# Altium integrated library Microchip Microcontroller 8-Bit PIC16.IntLib: 1529 symbols (part 18 of 55)
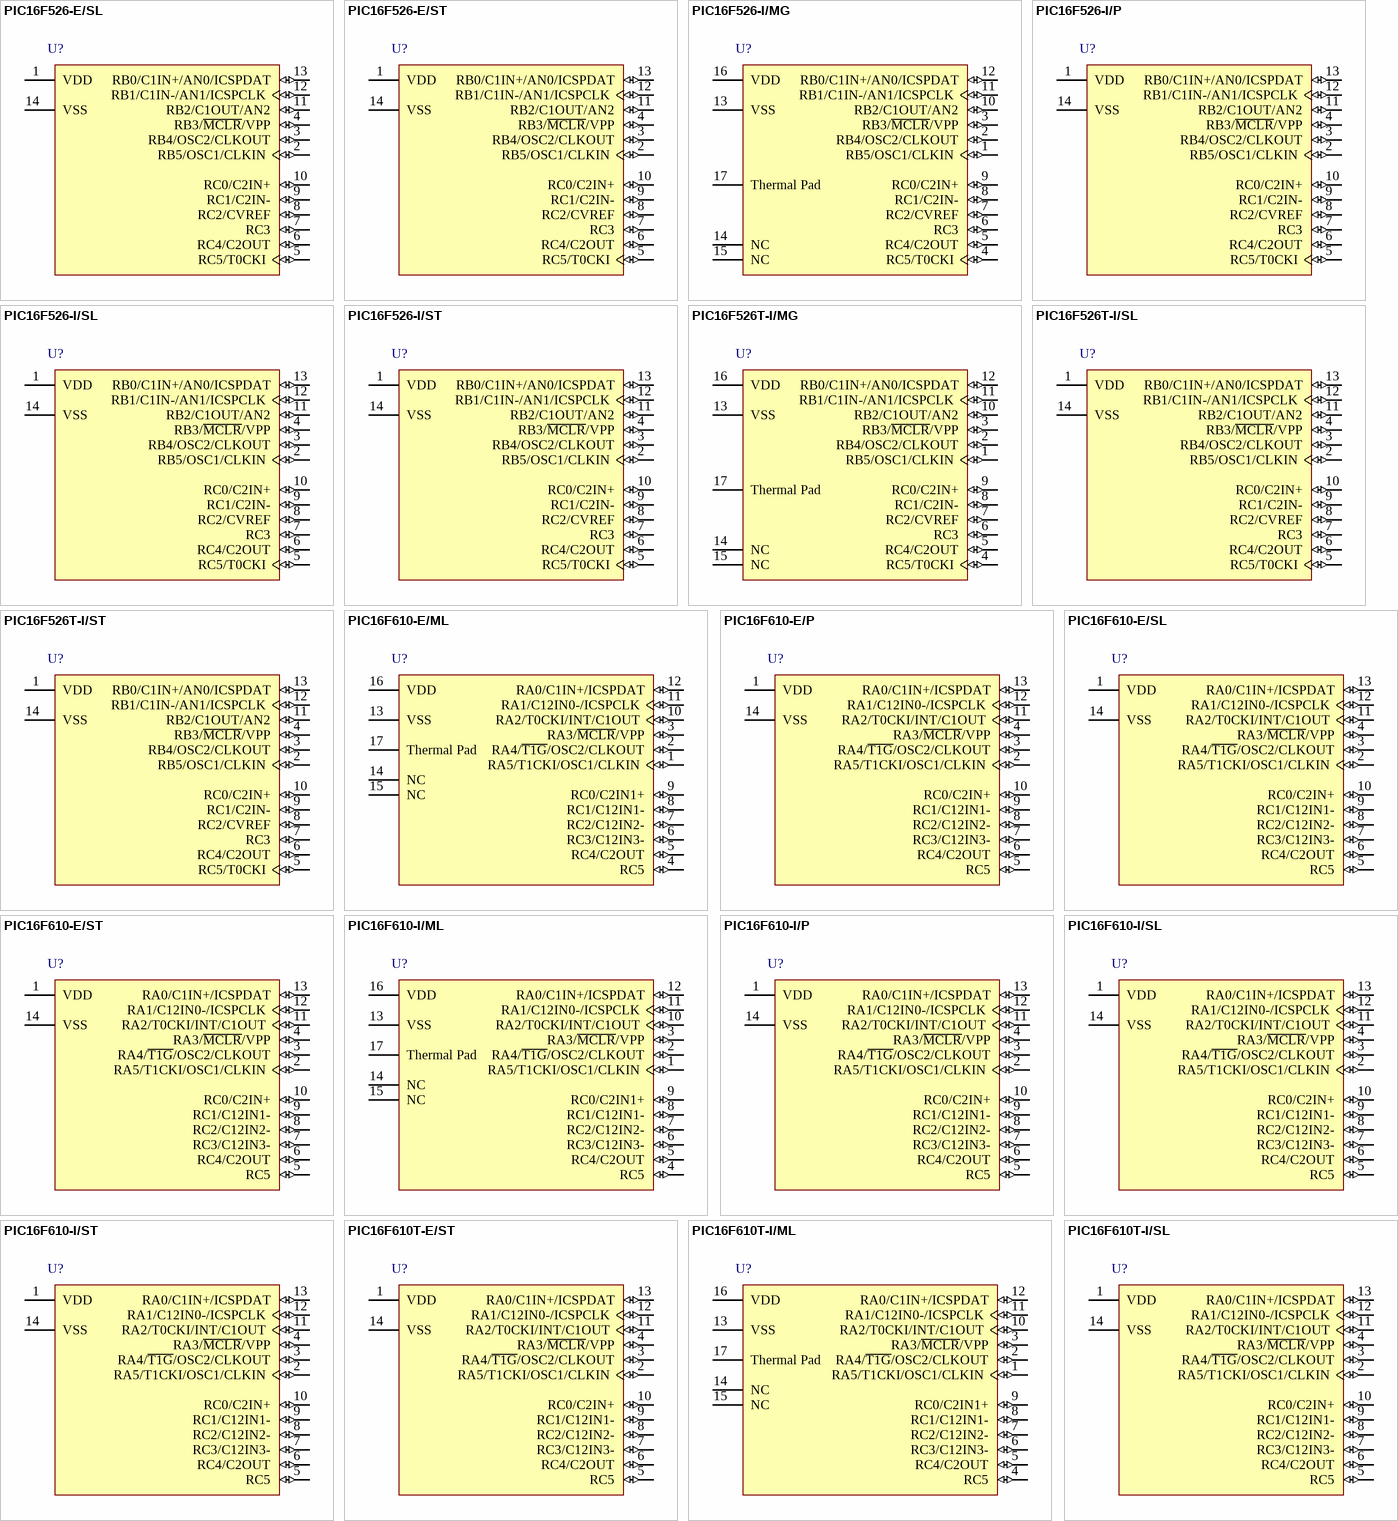
[diagram p135: symbols PIC16F526-E/SL to PIC16F610T-I/SL]

## PIC16F526-I/P
designator U?
8-Bit Flash Microcontroller, 1K (x12-Bit words) Program Memory, 131 Bytes Data Memory, 11 I/O pins, 14-Pin PDIP, Standard VDD Range, Industrial Temperature; Published: 29-Jan-2009; LatestRevisionDate: 02-Dec-2009; LatestRevisionNote: Updated to datasheet version revC, Jul-2009.; DatasheetVersion: revC, Jul-2009; PackageVersion: revBB, Aug-2009; PackageReference: PDIP300-P14; Publisher: Altium Limited; PackageDescription: 14-Lead Plastic Dual In-Line (P) - 300 mil Body [PDIP]; Supplier 1: Digi-Key; Supplier Part Number 1: PIC16F526-I/P-ND; Supplier 2: Farnell; Supplier Part Number 2: 1579579; ComponentLink1Description: Datasheet; ComponentLink1URL: http://ww1.microchip.com/downloads/en/DeviceDoc/41326C.pdf; ComponentLink2Description: Packaging Specification; ComponentLink2URL: http://www.microchip.com/stellent/groups/techpub_sg/documents/packagingspec/en012702.pdf; ComponentLink3Description: Microchip.com Home; ComponentLink3URL: http://www.microchip.com/
footprint PDIP300-P14 (DIP, 14-Leads, Row Spacing 7.62mm, Pitch 2.54mm, Body 19.2x6.6mm)
pins: 1 VDD (power), 2 RB5/OSC1/CLKIN (io), 3 RB4/OSC2/CLKOUT (io), 4 RB3/~{MCLR}/VPP (io), 5 RC5/T0CKI (io), 6 RC4/C2OUT (io), 7 RC3 (io), 8 RC2/CVREF (io), 9 RC1/C2IN- (io), 10 RC0/C2IN+ (io), 11 RB2/C1OUT/AN2 (io), 12 RB1/C1IN-/AN1/ICSPCLK (io), 13 RB0/C1IN+/AN0/ICSPDAT (io), 14 VSS (power)

## PIC16F526-I/SL
designator U?
8-Bit Flash Microcontroller, 1K (x12-Bit words) Program Memory, 131 Bytes Data Memory, 11 I/O pins, 14-Pin SOIC, Standard VDD Range, Industrial Temperature; Published: 29-Jan-2009; LatestRevisionDate: 02-Dec-2009; LatestRevisionNote: Updated to datasheet version revC, Jul-2009.; DatasheetVersion: revC, Jul-2009; PackageVersion: revBB, Aug-2009; PackageReference: SOIC-SL14; Publisher: Altium Limited; PackageDescription: 14-Lead Plastic Small Outline (SL) - Narrow, 3.90mm Body [SOIC]; Supplier 1: Digi-Key; Supplier Part Number 1: PIC16F526-I/SL-ND; Supplier 2: Farnell; Supplier Part Number 2: 1579580; Code_JEDEC: MS-012-AB; Code_IPC: SOIC127P600-14; ComponentLink1Description: Datasheet; ComponentLink1URL: http://ww1.microchip.com/downloads/en/DeviceDoc/41326C.pdf; ComponentLink2Description: Packaging Specification; ComponentLink2URL: http://www.microchip.com/stellent/groups/techpub_sg/documents/packagingspec/en012702.pdf; ComponentLink3Description: Microchip.com Home; ComponentLink3URL: http://www.microchip.com/
footprint SOIC-SL14_N (SOIC, 14-Leads, Body 8.7x3.9mm, Pitch 1.27mm, IPC Medium Density)
footprint SOIC-SL14_L (SOIC, 14-Leads, Body 8.7x3.9mm, Pitch 1.27mm, IPC High Density)
footprint SOIC-SL14_M (SOIC, 14-Leads, Body 8.7x3.9mm, Pitch 1.27mm, IPC Low Density)
pins: 1 VDD (power), 2 RB5/OSC1/CLKIN (io), 3 RB4/OSC2/CLKOUT (io), 4 RB3/~{MCLR}/VPP (io), 5 RC5/T0CKI (io), 6 RC4/C2OUT (io), 7 RC3 (io), 8 RC2/CVREF (io), 9 RC1/C2IN- (io), 10 RC0/C2IN+ (io), 11 RB2/C1OUT/AN2 (io), 12 RB1/C1IN-/AN1/ICSPCLK (io), 13 RB0/C1IN+/AN0/ICSPDAT (io), 14 VSS (power)

## PIC16F526-I/ST
designator U?
8-Bit Flash Microcontroller, 1K (x12-Bit words) Program Memory, 131 Bytes Data Memory, 11 I/O pins, 14-Pin TSSOP, Standard VDD Range, Industrial Temperature; Published: 29-Jan-2009; LatestRevisionDate: 02-Dec-2009; LatestRevisionNote: Updated to datasheet version revC, Jul-2009.; DatasheetVersion: revC, Jul-2009; PackageVersion: revBB, Aug-2009; PackageReference: TSSOP-ST14; Publisher: Altium Limited; PackageDescription: 14-Lead Plastic Thin Shrink Small Outline (ST) - 4.4mm Body [TSSOP]; Supplier 1: Digi-Key; Supplier Part Number 1: PIC16F526-I/ST-ND; ComponentLink1Description: Datasheet; ComponentLink1URL: http://ww1.microchip.com/downloads/en/DeviceDoc/41326C.pdf; ComponentLink2Description: Packaging Specification; ComponentLink2URL: http://www.microchip.com/stellent/groups/techpub_sg/documents/packagingspec/en012702.pdf; ComponentLink3Description: Microchip.com Home; ComponentLink3URL: http://www.microchip.com/
footprint TSSOP-ST14_N (TSOP, 14-Leads, Body 5x4.4mm, Pitch 0.65mm, IPC Medium Density)
footprint TSSOP-ST14_L (TSOP, 14-Leads, Body 5x4.4mm, Pitch 0.65mm, IPC High Density)
footprint TSSOP-ST14_M (TSOP, 14-Leads, Body 5x4.4mm, Pitch 0.65mm, IPC Low Density)
pins: 1 VDD (power), 2 RB5/OSC1/CLKIN (io), 3 RB4/OSC2/CLKOUT (io), 4 RB3/~{MCLR}/VPP (io), 5 RC5/T0CKI (io), 6 RC4/C2OUT (io), 7 RC3 (io), 8 RC2/CVREF (io), 9 RC1/C2IN- (io), 10 RC0/C2IN+ (io), 11 RB2/C1OUT/AN2 (io), 12 RB1/C1IN-/AN1/ICSPCLK (io), 13 RB0/C1IN+/AN0/ICSPDAT (io), 14 VSS (power)

## PIC16F526T-I/MG
designator U?
8-Bit Flash Microcontroller, 1K (x12-Bit words) Program Memory, 131 Bytes Data Memory, 11 I/O pins, 16-Pin QFN, Standard VDD Range, Industrial Temperature, Tape and Reel; Published: 40149; DatasheetVersion: revC, Jul-2009; PackageVersion: revBB, Aug-2009; PackageReference: QFN-MG16; Publisher: Altium Limited; PackageDescription: 16-Lead Plastic Quad Flat, No Lead Package (MG) - 3x3x0.9 mm Body [QFN]; Supplier 1: Digi-Key; Supplier Part Number 1: PIC16F526T-I/MG-ND; ComponentLink1Description: Datasheet; ComponentLink1URL: http://ww1.microchip.com/downloads/en/DeviceDoc/41326C.pdf; ComponentLink2Description: Packaging Specification; ComponentLink2URL: http://www.microchip.com/stellent/groups/techpub_sg/documents/packagingspec/en012702.pdf; ComponentLink3Description: Microchip.com Home; ComponentLink3URL: http://www.microchip.com/
footprint QFN-MG16_N (QFN, 16-Leads, Body 3x3mm, Pitch 0.5mm, IPC Medium Density)
footprint QFN-MG16_L (QFN, 16-Leads, Body 3x3mm, Pitch 0.5mm, IPC High Density)
footprint QFN-MG16_M (QFN, 16-Leads, Body 3x3mm, Pitch 0.5mm, IPC Low Density)
pins: 1 RB5/OSC1/CLKIN (io), 2 RB4/OSC2/CLKOUT (io), 3 RB3/~{MCLR}/VPP (io), 4 RC5/T0CKI (io), 5 RC4/C2OUT (io), 6 RC3 (io), 7 RC2/CVREF (io), 8 RC1/C2IN- (io), 9 RC0/C2IN+ (io), 10 RB2/C1OUT/AN2 (io), 11 RB1/C1IN-/AN1/ICSPCLK (io), 12 RB0/C1IN+/AN0/ICSPDAT (io), 13 VSS (power), 14 NC, 15 NC, 16 VDD (power), 17 Thermal Pad (power)

## PIC16F526T-I/SL
designator U?
8-Bit Flash Microcontroller, 1K (x12-Bit words) Program Memory, 131 Bytes Data Memory, 11 I/O pins, 14-Pin SOIC, Standard VDD Range, Industrial Temperature, Tape and Reel; Published: 29-Jan-2009; LatestRevisionDate: 02-Dec-2009; LatestRevisionNote: Updated to datasheet version revC, Jul-2009.; DatasheetVersion: revC, Jul-2009; PackageVersion: revBB, Aug-2009; PackageReference: SOIC-SL14; Publisher: Altium Limited; PackageDescription: 14-Lead Plastic Small Outline (SL) - Narrow, 3.90mm Body [SOIC]; Supplier 1: Digi-Key; Supplier Part Number 1: PIC16F526T-I/SLTR-ND; Code_JEDEC: MS-012-AB; Code_IPC: SOIC127P600-14; ComponentLink1Description: Datasheet; ComponentLink1URL: http://ww1.microchip.com/downloads/en/DeviceDoc/41326C.pdf; ComponentLink2Description: Packaging Specification; ComponentLink2URL: http://www.microchip.com/stellent/groups/techpub_sg/documents/packagingspec/en012702.pdf; ComponentLink3Description: Microchip.com Home; ComponentLink3URL: http://www.microchip.com/
footprint SOIC-SL14_N (SOIC, 14-Leads, Body 8.7x3.9mm, Pitch 1.27mm, IPC Medium Density)
footprint SOIC-SL14_L (SOIC, 14-Leads, Body 8.7x3.9mm, Pitch 1.27mm, IPC High Density)
footprint SOIC-SL14_M (SOIC, 14-Leads, Body 8.7x3.9mm, Pitch 1.27mm, IPC Low Density)
pins: 1 VDD (power), 2 RB5/OSC1/CLKIN (io), 3 RB4/OSC2/CLKOUT (io), 4 RB3/~{MCLR}/VPP (io), 5 RC5/T0CKI (io), 6 RC4/C2OUT (io), 7 RC3 (io), 8 RC2/CVREF (io), 9 RC1/C2IN- (io), 10 RC0/C2IN+ (io), 11 RB2/C1OUT/AN2 (io), 12 RB1/C1IN-/AN1/ICSPCLK (io), 13 RB0/C1IN+/AN0/ICSPDAT (io), 14 VSS (power)

## PIC16F526T-I/ST
designator U?
8-Bit Flash Microcontroller, 1K (x12-Bit words) Program Memory, 131 Bytes Data Memory, 11 I/O pins, 14-Pin TSSOP, Standard VDD Range, Industrial Temperature, Tape and Reel; Published: 29-Jan-2009; LatestRevisionDate: 02-Dec-2009; LatestRevisionNote: Updated to datasheet version revC, Jul-2009.; DatasheetVersion: revC, Jul-2009; PackageVersion: revBB, Aug-2009; PackageReference: TSSOP-ST14; Publisher: Altium Limited; PackageDescription: 14-Lead Plastic Thin Shrink Small Outline (ST) - 4.4mm Body [TSSOP]; Supplier 1: Digi-Key; Supplier Part Number 1: PIC16F526T-I/STTR-ND; ComponentLink1Description: Datasheet; ComponentLink1URL: http://ww1.microchip.com/downloads/en/DeviceDoc/41326C.pdf; ComponentLink2Description: Packaging Specification; ComponentLink2URL: http://www.microchip.com/stellent/groups/techpub_sg/documents/packagingspec/en012702.pdf; ComponentLink3Description: Microchip.com Home; ComponentLink3URL: http://www.microchip.com/
footprint TSSOP-ST14_N (TSOP, 14-Leads, Body 5x4.4mm, Pitch 0.65mm, IPC Medium Density)
footprint TSSOP-ST14_L (TSOP, 14-Leads, Body 5x4.4mm, Pitch 0.65mm, IPC High Density)
footprint TSSOP-ST14_M (TSOP, 14-Leads, Body 5x4.4mm, Pitch 0.65mm, IPC Low Density)
pins: 1 VDD (power), 2 RB5/OSC1/CLKIN (io), 3 RB4/OSC2/CLKOUT (io), 4 RB3/~{MCLR}/VPP (io), 5 RC5/T0CKI (io), 6 RC4/C2OUT (io), 7 RC3 (io), 8 RC2/CVREF (io), 9 RC1/C2IN- (io), 10 RC0/C2IN+ (io), 11 RB2/C1OUT/AN2 (io), 12 RB1/C1IN-/AN1/ICSPCLK (io), 13 RB0/C1IN+/AN0/ICSPDAT (io), 14 VSS (power)

## PIC16F610-E/ML
designator U?
8-Bit Flash Microcontroller CMOS Microcontroller, 1K (x14-Bit words) Program Memory, 64 Bytes Data Memory, 11 I/O pins, 16-Pin QFN, Standard VDD Range, Extended Temperature; Published: 29-Jan-2009; LatestRevisionDate: 02-Dec-2009; LatestRevisionNote: Updated datasheet to version revF, Nov-2009.; DatasheetVersion: revF, Nov-2009; PackageVersion: revBB, Aug-2009; PackageReference: QFN-ML16; Publisher: Altium Limited; PackageDescription: 16-Lead Plastic Quad Flat, No Lead Package (ML) - 4x4x0.9 mm Body [QFN]; Supplier 1: Digi-Key; Supplier Part Number 1: PIC16F610-E/ML-ND; Code_JEDEC: MO-220; Code_IPC: QFN65P400X400-16V2; ComponentLink1Description: Datasheet; ComponentLink1URL: http://ww1.microchip.com/downloads/en/DeviceDoc/41288F.pdf; ComponentLink2Description: Packaging Specification; ComponentLink2URL: http://www.microchip.com/stellent/groups/techpub_sg/documents/packagingspec/en012702.pdf; ComponentLink3Description: Microchip.com Home; ComponentLink3URL: http://www.microchip.com/
footprint QFN-ML16_N (QFN, 16-Leads, Body 4x4 mm, Pitch 0.65mm, IPC Medium Density)
footprint QFN-ML16_L (QFN, 16-Leads, Body 4x4 mm, Pitch 0.65mm, IPC High Density)
footprint QFN-ML16_M (QFN, 16-Leads, Body 4x4 mm, Pitch 0.65mm, IPC Low Density)
pins: 1 RA5/T1CKI/OSC1/CLKIN (io), 2 RA4/~{T1G}/OSC2/CLKOUT (io), 3 RA3/~{MCLR}/VPP (io), 4 RC5 (io), 5 RC4/C2OUT (io), 6 RC3/C12IN3- (io), 7 RC2/C12IN2- (io), 8 RC1/C12IN1- (io), 9 RC0/C2IN1+ (io), 10 RA2/T0CKI/INT/C1OUT (io), 11 RA1/C12IN0-/ICSPCLK (io), 12 RA0/C1IN+/ICSPDAT (io), 13 VSS (power), 14 NC, 15 NC, 16 VDD (power), 17 Thermal Pad

## PIC16F610-E/P
designator U?
8-Bit Flash Microcontroller CMOS Microcontroller, 1K (x14-Bit words) Program Memory, 64 Bytes Data Memory, 11 I/O pins, 14-Pin PDIP, Standard VDD Range, Extended Temperature; Published: 29-Jan-2009; LatestRevisionDate: 02-Dec-2009; LatestRevisionNote: Updated datasheet to version revF, Nov-2009.; DatasheetVersion: revF, Nov-2009; PackageVersion: revBB, Aug-2009; PackageReference: PDIP300-P14; Publisher: Altium Limited; PackageDescription: 14-Lead Plastic Dual In-Line (P) - 300 mil Body [PDIP]; Supplier 1: Digi-Key; Supplier Part Number 1: PIC16F610-E/P-ND; ComponentLink1Description: Datasheet; ComponentLink1URL: http://ww1.microchip.com/downloads/en/DeviceDoc/41288F.pdf; ComponentLink2Description: Packaging Specification; ComponentLink2URL: http://www.microchip.com/stellent/groups/techpub_sg/documents/packagingspec/en012702.pdf; ComponentLink3Description: Microchip.com Home; ComponentLink3URL: http://www.microchip.com/
footprint PDIP300-P14 (DIP, 14-Leads, Row Spacing 7.62mm, Pitch 2.54mm, Body 19.2x6.6mm)
pins: 1 VDD (power), 2 RA5/T1CKI/OSC1/CLKIN (io), 3 RA4/~{T1G}/OSC2/CLKOUT (io), 4 RA3/~{MCLR}/VPP (io), 5 RC5 (io), 6 RC4/C2OUT (io), 7 RC3/C12IN3- (io), 8 RC2/C12IN2- (io), 9 RC1/C12IN1- (io), 10 RC0/C2IN+ (io), 11 RA2/T0CKI/INT/C1OUT (io), 12 RA1/C12IN0-/ICSPCLK (io), 13 RA0/C1IN+/ICSPDAT (io), 14 VSS (power)

## PIC16F610-E/SL
designator U?
8-Bit Flash Microcontroller CMOS Microcontroller, 1K (x14-Bit words) Program Memory, 64 Bytes Data Memory, 11 I/O pins, 14-Pin SOIC, Standard VDD Range, Extended Temperature; Published: 29-Jan-2009; LatestRevisionDate: 02-Dec-2009; LatestRevisionNote: Updated datasheet to version revF, Nov-2009.; DatasheetVersion: revF, Nov-2009; PackageVersion: revBB, Aug-2009; PackageReference: SOIC-SL14; Publisher: Altium Limited; PackageDescription: 14-Lead Plastic Small Outline (SL) - Narrow, 3.90mm Body [SOIC]; Supplier 1: Digi-Key; Supplier Part Number 1: PIC16F610-E/SL-ND; Code_JEDEC: MS-012-AB; Code_IPC: SOIC127P600-14; ComponentLink1Description: Datasheet; ComponentLink1URL: http://ww1.microchip.com/downloads/en/DeviceDoc/41288F.pdf; ComponentLink2Description: Packaging Specification; ComponentLink2URL: http://www.microchip.com/stellent/groups/techpub_sg/documents/packagingspec/en012702.pdf; ComponentLink3Description: Microchip.com Home; ComponentLink3URL: http://www.microchip.com/
footprint SOIC-SL14_N (SOIC, 14-Leads, Body 8.7x3.9mm, Pitch 1.27mm, IPC Medium Density)
footprint SOIC-SL14_L (SOIC, 14-Leads, Body 8.7x3.9mm, Pitch 1.27mm, IPC High Density)
footprint SOIC-SL14_M (SOIC, 14-Leads, Body 8.7x3.9mm, Pitch 1.27mm, IPC Low Density)
pins: 1 VDD (power), 2 RA5/T1CKI/OSC1/CLKIN (io), 3 RA4/~{T1G}/OSC2/CLKOUT (io), 4 RA3/~{MCLR}/VPP (io), 5 RC5 (io), 6 RC4/C2OUT (io), 7 RC3/C12IN3- (io), 8 RC2/C12IN2- (io), 9 RC1/C12IN1- (io), 10 RC0/C2IN+ (io), 11 RA2/T0CKI/INT/C1OUT (io), 12 RA1/C12IN0-/ICSPCLK (io), 13 RA0/C1IN+/ICSPDAT (io), 14 VSS (power)

## PIC16F610-E/ST
designator U?
8-Bit Flash Microcontroller CMOS Microcontroller, 1K (x14-Bit words) Program Memory, 64 Bytes Data Memory, 11 I/O pins, 14-Pin TSSOP, Standard VDD Range, Extended Temperature; Published: 29-Jan-2009; LatestRevisionDate: 02-Dec-2009; LatestRevisionNote: Updated datasheet to version revF, Nov-2009.; DatasheetVersion: revF, Nov-2009; PackageVersion: revBB, Aug-2009; PackageReference: TSSOP-ST14; Publisher: Altium Limited; PackageDescription: 14-Lead Plastic Thin Shrink Small Outline (ST) - 4.4mm Body [TSSOP]; Supplier 1: Digi-Key; Supplier Part Number 1: PIC16F610-E/ST-ND; ComponentLink1Description: Datasheet; ComponentLink1URL: http://ww1.microchip.com/downloads/en/DeviceDoc/41288F.pdf; ComponentLink2Description: Packaging Specification; ComponentLink2URL: http://www.microchip.com/stellent/groups/techpub_sg/documents/packagingspec/en012702.pdf; ComponentLink3Description: Microchip.com Home; ComponentLink3URL: http://www.microchip.com/
footprint TSSOP-ST14_N (TSOP, 14-Leads, Body 5x4.4mm, Pitch 0.65mm, IPC Medium Density)
footprint TSSOP-ST14_L (TSOP, 14-Leads, Body 5x4.4mm, Pitch 0.65mm, IPC High Density)
footprint TSSOP-ST14_M (TSOP, 14-Leads, Body 5x4.4mm, Pitch 0.65mm, IPC Low Density)
pins: 1 VDD (power), 2 RA5/T1CKI/OSC1/CLKIN (io), 3 RA4/~{T1G}/OSC2/CLKOUT (io), 4 RA3/~{MCLR}/VPP (io), 5 RC5 (io), 6 RC4/C2OUT (io), 7 RC3/C12IN3- (io), 8 RC2/C12IN2- (io), 9 RC1/C12IN1- (io), 10 RC0/C2IN+ (io), 11 RA2/T0CKI/INT/C1OUT (io), 12 RA1/C12IN0-/ICSPCLK (io), 13 RA0/C1IN+/ICSPDAT (io), 14 VSS (power)

## PIC16F610-I/ML
designator U?
8-Bit Flash Microcontroller CMOS Microcontroller, 1K (x14-Bit words) Program Memory, 64 Bytes Data Memory, 11 I/O pins, 16-Pin QFN, Standard VDD Range, Industrial Temperature; Published: 29-Jan-2009; LatestRevisionDate: 02-Dec-2009; LatestRevisionNote: Updated datasheet to version revF, Nov-2009.; DatasheetVersion: revF, Nov-2009; PackageVersion: revBB, Aug-2009; PackageReference: QFN-ML16; Publisher: Altium Limited; PackageDescription: 16-Lead Plastic Quad Flat, No Lead Package (ML) - 4x4x0.9 mm Body [QFN]; Supplier 1: Digi-Key; Supplier Part Number 1: PIC16F610-I/ML-ND; Supplier 2: Farnell; Supplier Part Number 2: 1818500; Code_JEDEC: MO-220; Code_IPC: QFN65P400X400-16V2; ComponentLink1Description: Datasheet; ComponentLink1URL: http://ww1.microchip.com/downloads/en/DeviceDoc/41288F.pdf; ComponentLink2Description: Packaging Specification; ComponentLink2URL: http://www.microchip.com/stellent/groups/techpub_sg/documents/packagingspec/en012702.pdf; ComponentLink3Description: Microchip.com Home; ComponentLink3URL: http://www.microchip.com/
footprint QFN-ML16_N (QFN, 16-Leads, Body 4x4 mm, Pitch 0.65mm, IPC Medium Density)
footprint QFN-ML16_L (QFN, 16-Leads, Body 4x4 mm, Pitch 0.65mm, IPC High Density)
footprint QFN-ML16_M (QFN, 16-Leads, Body 4x4 mm, Pitch 0.65mm, IPC Low Density)
pins: 1 RA5/T1CKI/OSC1/CLKIN (io), 2 RA4/~{T1G}/OSC2/CLKOUT (io), 3 RA3/~{MCLR}/VPP (io), 4 RC5 (io), 5 RC4/C2OUT (io), 6 RC3/C12IN3- (io), 7 RC2/C12IN2- (io), 8 RC1/C12IN1- (io), 9 RC0/C2IN1+ (io), 10 RA2/T0CKI/INT/C1OUT (io), 11 RA1/C12IN0-/ICSPCLK (io), 12 RA0/C1IN+/ICSPDAT (io), 13 VSS (power), 14 NC, 15 NC, 16 VDD (power), 17 Thermal Pad

## PIC16F610-I/P
designator U?
8-Bit Flash Microcontroller CMOS Microcontroller, 1K (x14-Bit words) Program Memory, 64 Bytes Data Memory, 11 I/O pins, 14-Pin PDIP, Standard VDD Range, Industrial Temperature; Published: 29-Jan-2009; LatestRevisionDate: 02-Dec-2009; LatestRevisionNote: Updated datasheet to version revF, Nov-2009.; DatasheetVersion: revF, Nov-2009; PackageVersion: revBB, Aug-2009; PackageReference: PDIP300-P14; Publisher: Altium Limited; PackageDescription: 14-Lead Plastic Dual In-Line (P) - 300 mil Body [PDIP]; Supplier 1: Digi-Key; Supplier Part Number 1: PIC16F610-I/P-ND; Supplier 2: Farnell; Supplier Part Number 2: 1332197; ComponentLink1Description: Datasheet; ComponentLink1URL: http://ww1.microchip.com/downloads/en/DeviceDoc/41288F.pdf; ComponentLink2Description: Packaging Specification; ComponentLink2URL: http://www.microchip.com/stellent/groups/techpub_sg/documents/packagingspec/en012702.pdf; ComponentLink3Description: Microchip.com Home; ComponentLink3URL: http://www.microchip.com/
footprint PDIP300-P14 (DIP, 14-Leads, Row Spacing 7.62mm, Pitch 2.54mm, Body 19.2x6.6mm)
pins: 1 VDD (power), 2 RA5/T1CKI/OSC1/CLKIN (io), 3 RA4/~{T1G}/OSC2/CLKOUT (io), 4 RA3/~{MCLR}/VPP (io), 5 RC5 (io), 6 RC4/C2OUT (io), 7 RC3/C12IN3- (io), 8 RC2/C12IN2- (io), 9 RC1/C12IN1- (io), 10 RC0/C2IN+ (io), 11 RA2/T0CKI/INT/C1OUT (io), 12 RA1/C12IN0-/ICSPCLK (io), 13 RA0/C1IN+/ICSPDAT (io), 14 VSS (power)

## PIC16F610-I/SL
designator U?
8-Bit Flash Microcontroller CMOS Microcontroller, 1K (x14-Bit words) Program Memory, 64 Bytes Data Memory, 11 I/O pins, 14-Pin SOIC, Standard VDD Range, Industrial Temperature; Published: 29-Jan-2009; LatestRevisionDate: 02-Dec-2009; LatestRevisionNote: Updated datasheet to version revF, Nov-2009.; DatasheetVersion: revF, Nov-2009; PackageVersion: revBB, Aug-2009; PackageReference: SOIC-SL14; Publisher: Altium Limited; PackageDescription: 14-Lead Plastic Small Outline (SL) - Narrow, 3.90mm Body [SOIC]; Supplier 1: Digi-Key; Supplier Part Number 1: PIC16F610-I/SL-ND; Supplier 2: Farnell; Supplier Part Number 2: 1332198; Code_JEDEC: MS-012-AB; Code_IPC: SOIC127P600-14; ComponentLink1Description: Datasheet; ComponentLink1URL: http://ww1.microchip.com/downloads/en/DeviceDoc/41288F.pdf; ComponentLink2Description: Packaging Specification; ComponentLink2URL: http://www.microchip.com/stellent/groups/techpub_sg/documents/packagingspec/en012702.pdf; ComponentLink3Description: Microchip.com Home; ComponentLink3URL: http://www.microchip.com/
footprint SOIC-SL14_N (SOIC, 14-Leads, Body 8.7x3.9mm, Pitch 1.27mm, IPC Medium Density)
footprint SOIC-SL14_L (SOIC, 14-Leads, Body 8.7x3.9mm, Pitch 1.27mm, IPC High Density)
footprint SOIC-SL14_M (SOIC, 14-Leads, Body 8.7x3.9mm, Pitch 1.27mm, IPC Low Density)
pins: 1 VDD (power), 2 RA5/T1CKI/OSC1/CLKIN (io), 3 RA4/~{T1G}/OSC2/CLKOUT (io), 4 RA3/~{MCLR}/VPP (io), 5 RC5 (io), 6 RC4/C2OUT (io), 7 RC3/C12IN3- (io), 8 RC2/C12IN2- (io), 9 RC1/C12IN1- (io), 10 RC0/C2IN+ (io), 11 RA2/T0CKI/INT/C1OUT (io), 12 RA1/C12IN0-/ICSPCLK (io), 13 RA0/C1IN+/ICSPDAT (io), 14 VSS (power)

## PIC16F610-I/ST
designator U?
8-Bit Flash Microcontroller CMOS Microcontroller, 1K (x14-Bit words) Program Memory, 64 Bytes Data Memory, 11 I/O pins, 14-Pin TSSOP, Standard VDD Range, Industrial Temperature; Published: 29-Jan-2009; LatestRevisionDate: 02-Dec-2009; LatestRevisionNote: Updated datasheet to version revF, Nov-2009.; DatasheetVersion: revF, Nov-2009; PackageVersion: revBB, Aug-2009; PackageReference: TSSOP-ST14; Publisher: Altium Limited; PackageDescription: 14-Lead Plastic Thin Shrink Small Outline (ST) - 4.4mm Body [TSSOP]; Supplier 1: Digi-Key; Supplier Part Number 1: PIC16F610-I/ST-ND; Supplier 2: Farnell; Supplier Part Number 2: 1818501; ComponentLink1Description: Datasheet; ComponentLink1URL: http://ww1.microchip.com/downloads/en/DeviceDoc/41288F.pdf; ComponentLink2Description: Packaging Specification; ComponentLink2URL: http://www.microchip.com/stellent/groups/techpub_sg/documents/packagingspec/en012702.pdf; ComponentLink3Description: Microchip.com Home; ComponentLink3URL: http://www.microchip.com/
footprint TSSOP-ST14_N (TSOP, 14-Leads, Body 5x4.4mm, Pitch 0.65mm, IPC Medium Density)
footprint TSSOP-ST14_L (TSOP, 14-Leads, Body 5x4.4mm, Pitch 0.65mm, IPC High Density)
footprint TSSOP-ST14_M (TSOP, 14-Leads, Body 5x4.4mm, Pitch 0.65mm, IPC Low Density)
pins: 1 VDD (power), 2 RA5/T1CKI/OSC1/CLKIN (io), 3 RA4/~{T1G}/OSC2/CLKOUT (io), 4 RA3/~{MCLR}/VPP (io), 5 RC5 (io), 6 RC4/C2OUT (io), 7 RC3/C12IN3- (io), 8 RC2/C12IN2- (io), 9 RC1/C12IN1- (io), 10 RC0/C2IN+ (io), 11 RA2/T0CKI/INT/C1OUT (io), 12 RA1/C12IN0-/ICSPCLK (io), 13 RA0/C1IN+/ICSPDAT (io), 14 VSS (power)

## PIC16F610T-E/ST
designator U?
8-Bit Flash Microcontroller CMOS Microcontroller, 1K (x14-Bit words) Program Memory, 64 Bytes Data Memory, 11 I/O pins, 14-Pin TSSOP, Standard VDD Range, Extended Temperature, Tape and Reel; Published: 29-Jan-2009; LatestRevisionDate: 02-Dec-2009; LatestRevisionNote: Updated datasheet to version revF, Nov-2009.; DatasheetVersion: revF, Nov-2009; PackageVersion: revBB, Aug-2009; PackageReference: TSSOP-ST14; Publisher: Altium Limited; PackageDescription: 14-Lead Plastic Thin Shrink Small Outline (ST) - 4.4mm Body [TSSOP]; ComponentLink1Description: Datasheet; ComponentLink1URL: http://ww1.microchip.com/downloads/en/DeviceDoc/41288F.pdf; ComponentLink2Description: Packaging Specification; ComponentLink2URL: http://www.microchip.com/stellent/groups/techpub_sg/documents/packagingspec/en012702.pdf; ComponentLink3Description: Microchip.com Home; ComponentLink3URL: http://www.microchip.com/
footprint TSSOP-ST14_N (TSOP, 14-Leads, Body 5x4.4mm, Pitch 0.65mm, IPC Medium Density)
footprint TSSOP-ST14_L (TSOP, 14-Leads, Body 5x4.4mm, Pitch 0.65mm, IPC High Density)
footprint TSSOP-ST14_M (TSOP, 14-Leads, Body 5x4.4mm, Pitch 0.65mm, IPC Low Density)
pins: 1 VDD (power), 2 RA5/T1CKI/OSC1/CLKIN (io), 3 RA4/~{T1G}/OSC2/CLKOUT (io), 4 RA3/~{MCLR}/VPP (io), 5 RC5 (io), 6 RC4/C2OUT (io), 7 RC3/C12IN3- (io), 8 RC2/C12IN2- (io), 9 RC1/C12IN1- (io), 10 RC0/C2IN+ (io), 11 RA2/T0CKI/INT/C1OUT (io), 12 RA1/C12IN0-/ICSPCLK (io), 13 RA0/C1IN+/ICSPDAT (io), 14 VSS (power)

## PIC16F610T-I/ML
designator U?
8-Bit Flash Microcontroller CMOS Microcontroller, 1K (x14-Bit words) Program Memory, 64 Bytes Data Memory, 11 I/O pins, 16-Pin QFN, Standard VDD Range, Industrial Temperature, Tape and Reel; Published: 29-Jan-2009; LatestRevisionDate: 02-Dec-2009; LatestRevisionNote: Updated datasheet to version revF, Nov-2009.; DatasheetVersion: revF, Nov-2009; PackageVersion: revBB, Aug-2009; PackageReference: QFN-ML16; Publisher: Altium Limited; PackageDescription: 16-Lead Plastic Quad Flat, No Lead Package (ML) - 4x4x0.9 mm Body [QFN]; Supplier 1: Digi-Key; Supplier Part Number 1: PIC16F610T-I/MLTR-ND; Code_JEDEC: MO-220; Code_IPC: QFN65P400X400-16V2; ComponentLink1Description: Datasheet; ComponentLink1URL: http://ww1.microchip.com/downloads/en/DeviceDoc/41288F.pdf; ComponentLink2Description: Packaging Specification; ComponentLink2URL: http://www.microchip.com/stellent/groups/techpub_sg/documents/packagingspec/en012702.pdf; ComponentLink3Description: Microchip.com Home; ComponentLink3URL: http://www.microchip.com/
footprint QFN-ML16_N (QFN, 16-Leads, Body 4x4 mm, Pitch 0.65mm, IPC Medium Density)
footprint QFN-ML16_L (QFN, 16-Leads, Body 4x4 mm, Pitch 0.65mm, IPC High Density)
footprint QFN-ML16_M (QFN, 16-Leads, Body 4x4 mm, Pitch 0.65mm, IPC Low Density)
pins: 1 RA5/T1CKI/OSC1/CLKIN (io), 2 RA4/~{T1G}/OSC2/CLKOUT (io), 3 RA3/~{MCLR}/VPP (io), 4 RC5 (io), 5 RC4/C2OUT (io), 6 RC3/C12IN3- (io), 7 RC2/C12IN2- (io), 8 RC1/C12IN1- (io), 9 RC0/C2IN1+ (io), 10 RA2/T0CKI/INT/C1OUT (io), 11 RA1/C12IN0-/ICSPCLK (io), 12 RA0/C1IN+/ICSPDAT (io), 13 VSS (power), 14 NC, 15 NC, 16 VDD (power), 17 Thermal Pad

## PIC16F610T-I/SL
designator U?
8-Bit Flash Microcontroller CMOS Microcontroller, 1K (x14-Bit words) Program Memory, 64 Bytes Data Memory, 11 I/O pins, 14-Pin SOIC, Standard VDD Range, Industrial Temperature, Tape and Reel; Published: 29-Jan-2009; LatestRevisionDate: 02-Dec-2009; LatestRevisionNote: Updated datasheet to version revF, Nov-2009.; DatasheetVersion: revF, Nov-2009; PackageVersion: revBB, Aug-2009; PackageReference: SOIC-SL14; Publisher: Altium Limited; PackageDescription: 14-Lead Plastic Small Outline (SL) - Narrow, 3.90mm Body [SOIC]; Supplier 1: Digi-Key; Supplier Part Number 1: PIC16F610T-I/SLTR-ND; Code_JEDEC: MS-012-AB; Code_IPC: SOIC127P600-14; ComponentLink1Description: Datasheet; ComponentLink1URL: http://ww1.microchip.com/downloads/en/DeviceDoc/41288F.pdf; ComponentLink2Description: Packaging Specification; ComponentLink2URL: http://www.microchip.com/stellent/groups/techpub_sg/documents/packagingspec/en012702.pdf; ComponentLink3Description: Microchip.com Home; ComponentLink3URL: http://www.microchip.com/
footprint SOIC-SL14_N (SOIC, 14-Leads, Body 8.7x3.9mm, Pitch 1.27mm, IPC Medium Density)
footprint SOIC-SL14_L (SOIC, 14-Leads, Body 8.7x3.9mm, Pitch 1.27mm, IPC High Density)
footprint SOIC-SL14_M (SOIC, 14-Leads, Body 8.7x3.9mm, Pitch 1.27mm, IPC Low Density)
pins: 1 VDD (power), 2 RA5/T1CKI/OSC1/CLKIN (io), 3 RA4/~{T1G}/OSC2/CLKOUT (io), 4 RA3/~{MCLR}/VPP (io), 5 RC5 (io), 6 RC4/C2OUT (io), 7 RC3/C12IN3- (io), 8 RC2/C12IN2- (io), 9 RC1/C12IN1- (io), 10 RC0/C2IN+ (io), 11 RA2/T0CKI/INT/C1OUT (io), 12 RA1/C12IN0-/ICSPCLK (io), 13 RA0/C1IN+/ICSPDAT (io), 14 VSS (power)

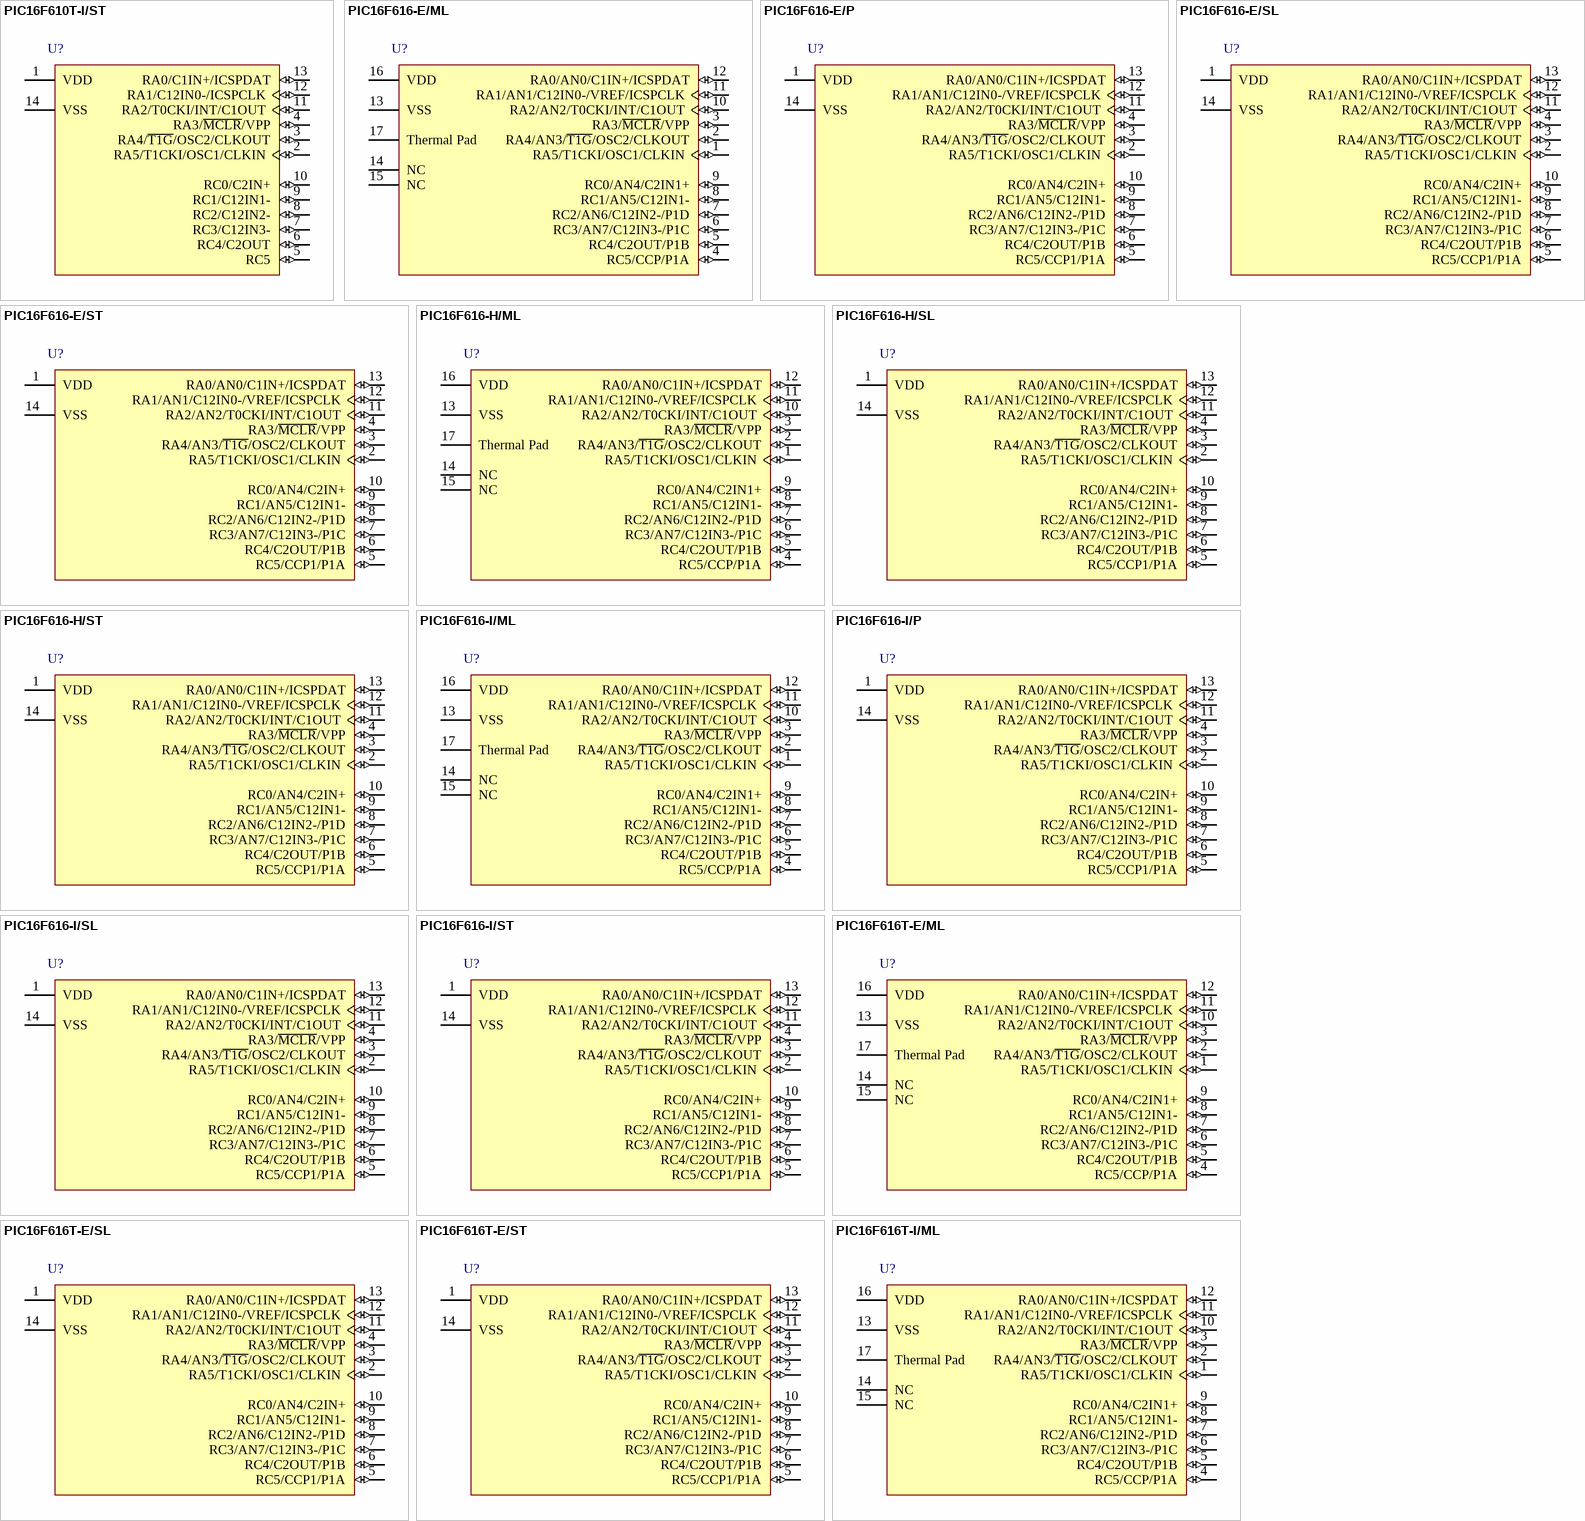
[diagram p34: symbols PIC16F610T-I/ST to PIC16F616T-I/ML]

## PIC16F610T-I/ST
designator U?
8-Bit Flash Microcontroller CMOS Microcontroller, 1K (x14-Bit words) Program Memory, 64 Bytes Data Memory, 11 I/O pins, 14-Pin TSSOP, Standard VDD Range, Industrial Temperature, Tape and Reel; Published: 29-Jan-2009; LatestRevisionDate: 02-Dec-2009; LatestRevisionNote: Updated datasheet to version revF, Nov-2009.; DatasheetVersion: revF, Nov-2009; PackageVersion: revBB, Aug-2009; PackageReference: TSSOP-ST14; Publisher: Altium Limited; PackageDescription: 14-Lead Plastic Thin Shrink Small Outline (ST) - 4.4mm Body [TSSOP]; Supplier 1: Digi-Key; Supplier Part Number 1: PIC16F610T-I/STTR-ND; ComponentLink1Description: Datasheet; ComponentLink1URL: http://ww1.microchip.com/downloads/en/DeviceDoc/41288F.pdf; ComponentLink2Description: Packaging Specification; ComponentLink2URL: http://www.microchip.com/stellent/groups/techpub_sg/documents/packagingspec/en012702.pdf; ComponentLink3Description: Microchip.com Home; ComponentLink3URL: http://www.microchip.com/
footprint TSSOP-ST14_N (TSOP, 14-Leads, Body 5x4.4mm, Pitch 0.65mm, IPC Medium Density)
footprint TSSOP-ST14_L (TSOP, 14-Leads, Body 5x4.4mm, Pitch 0.65mm, IPC High Density)
footprint TSSOP-ST14_M (TSOP, 14-Leads, Body 5x4.4mm, Pitch 0.65mm, IPC Low Density)
pins: 1 VDD (power), 2 RA5/T1CKI/OSC1/CLKIN (io), 3 RA4/~{T1G}/OSC2/CLKOUT (io), 4 RA3/~{MCLR}/VPP (io), 5 RC5 (io), 6 RC4/C2OUT (io), 7 RC3/C12IN3- (io), 8 RC2/C12IN2- (io), 9 RC1/C12IN1- (io), 10 RC0/C2IN+ (io), 11 RA2/T0CKI/INT/C1OUT (io), 12 RA1/C12IN0-/ICSPCLK (io), 13 RA0/C1IN+/ICSPDAT (io), 14 VSS (power)

## PIC16F616-E/ML
designator U?
8-Bit Flash Microcontroller CMOS Microcontroller, 2K (x14-Bit words) Program Memory, 128 Bytes Data Memory, 11 I/O pins, 16-Pin QFN, Standard VDD Range, Extended Temperature; Published: 29-Jan-2009; LatestRevisionDate: 02-Dec-2009; LatestRevisionNote: Updated datasheet to version revF, Nov-2009.; DatasheetVersion: revF, Nov-2009; PackageVersion: revBB, Aug-2009; PackageReference: QFN-ML16; Publisher: Altium Limited; PackageDescription: 16-Lead Plastic Quad Flat, No Lead Package (ML) - 4x4x0.9 mm Body [QFN]; Supplier 1: Digi-Key; Supplier Part Number 1: PIC16F616-E/ML-ND; Code_JEDEC: MO-220; Code_IPC: QFN65P400X400-16V2; ComponentLink1Description: Datasheet; ComponentLink1URL: http://ww1.microchip.com/downloads/en/DeviceDoc/41288F.pdf; ComponentLink2Description: Packaging Specification; ComponentLink2URL: http://www.microchip.com/stellent/groups/techpub_sg/documents/packagingspec/en012702.pdf; ComponentLink3Description: Microchip.com Home; ComponentLink3URL: http://www.microchip.com/
footprint QFN-ML16_N (QFN, 16-Leads, Body 4x4 mm, Pitch 0.65mm, IPC Medium Density)
footprint QFN-ML16_L (QFN, 16-Leads, Body 4x4 mm, Pitch 0.65mm, IPC High Density)
footprint QFN-ML16_M (QFN, 16-Leads, Body 4x4 mm, Pitch 0.65mm, IPC Low Density)
pins: 1 RA5/T1CKI/OSC1/CLKIN (io), 2 RA4/AN3/~{T1G}/OSC2/CLKOUT (io), 3 RA3/~{MCLR}/VPP (io), 4 RC5/CCP/P1A (io), 5 RC4/C2OUT/P1B (io), 6 RC3/AN7/C12IN3-/P1C (io), 7 RC2/AN6/C12IN2-/P1D (io), 8 RC1/AN5/C12IN1- (io), 9 RC0/AN4/C2IN1+ (io), 10 RA2/AN2/T0CKI/INT/C1OUT (io), 11 RA1/AN1/C12IN0-/VREF/ICSPCLK (io), 12 RA0/AN0/C1IN+/ICSPDAT (io), 13 VSS (power), 14 NC, 15 NC, 16 VDD (power), 17 Thermal Pad

## PIC16F616-E/P
designator U?
8-Bit Flash Microcontroller CMOS Microcontroller, 2K (x14-Bit words) Program Memory, 128 Bytes Data Memory, 11 I/O pins, 14-Pin PDIP, Standard VDD Range, Extended Temperature; Published: 29-Jan-2009; LatestRevisionDate: 02-Dec-2009; LatestRevisionNote: Updated datasheet to version revF, Nov-2009.; DatasheetVersion: revF, Nov-2009; PackageVersion: revBB, Aug-2009; PackageReference: PDIP300-P14; Publisher: Altium Limited; PackageDescription: 14-Lead Plastic Dual In-Line (P) - 300 mil Body [PDIP]; Supplier 1: Digi-Key; Supplier Part Number 1: PIC16F616-E/P-ND; ComponentLink1Description: Datasheet; ComponentLink1URL: http://ww1.microchip.com/downloads/en/DeviceDoc/41288F.pdf; ComponentLink2Description: Packaging Specification; ComponentLink2URL: http://www.microchip.com/stellent/groups/techpub_sg/documents/packagingspec/en012702.pdf; ComponentLink3Description: Microchip.com Home; ComponentLink3URL: http://www.microchip.com/
footprint PDIP300-P14 (DIP, 14-Leads, Row Spacing 7.62mm, Pitch 2.54mm, Body 19.2x6.6mm)
pins: 1 VDD (power), 2 RA5/T1CKI/OSC1/CLKIN (io), 3 RA4/AN3/~{T1G}/OSC2/CLKOUT (io), 4 RA3/~{MCLR}/VPP (io), 5 RC5/CCP1/P1A (io), 6 RC4/C2OUT/P1B (io), 7 RC3/AN7/C12IN3-/P1C (io), 8 RC2/AN6/C12IN2-/P1D (io), 9 RC1/AN5/C12IN1- (io), 10 RC0/AN4/C2IN+ (io), 11 RA2/AN2/T0CKI/INT/C1OUT (io), 12 RA1/AN1/C12IN0-/VREF/ICSPCLK (io), 13 RA0/AN0/C1IN+/ICSPDAT (io), 14 VSS (power)

## PIC16F616-E/SL
designator U?
8-Bit Flash Microcontroller CMOS Microcontroller, 2K (x14-Bit words) Program Memory, 128 Bytes Data Memory, 11 I/O pins, 14-Pin SOIC, Standard VDD Range, Extended Temperature; Published: 29-Jan-2009; LatestRevisionDate: 02-Dec-2009; LatestRevisionNote: Updated datasheet to version revF, Nov-2009.; DatasheetVersion: revF, Nov-2009; PackageVersion: revBB, Aug-2009; PackageReference: SOIC-SL14; Publisher: Altium Limited; PackageDescription: 14-Lead Plastic Small Outline (SL) - Narrow, 3.90mm Body [SOIC]; Supplier 1: Digi-Key; Supplier Part Number 1: PIC16F616-E/SL-ND; Code_JEDEC: MS-012-AB; Code_IPC: SOIC127P600-14; ComponentLink1Description: Datasheet; ComponentLink1URL: http://ww1.microchip.com/downloads/en/DeviceDoc/41288F.pdf; ComponentLink2Description: Packaging Specification; ComponentLink2URL: http://www.microchip.com/stellent/groups/techpub_sg/documents/packagingspec/en012702.pdf; ComponentLink3Description: Microchip.com Home; ComponentLink3URL: http://www.microchip.com/
footprint SOIC-SL14_N (SOIC, 14-Leads, Body 8.7x3.9mm, Pitch 1.27mm, IPC Medium Density)
footprint SOIC-SL14_L (SOIC, 14-Leads, Body 8.7x3.9mm, Pitch 1.27mm, IPC High Density)
footprint SOIC-SL14_M (SOIC, 14-Leads, Body 8.7x3.9mm, Pitch 1.27mm, IPC Low Density)
pins: 1 VDD (power), 2 RA5/T1CKI/OSC1/CLKIN (io), 3 RA4/AN3/~{T1G}/OSC2/CLKOUT (io), 4 RA3/~{MCLR}/VPP (io), 5 RC5/CCP1/P1A (io), 6 RC4/C2OUT/P1B (io), 7 RC3/AN7/C12IN3-/P1C (io), 8 RC2/AN6/C12IN2-/P1D (io), 9 RC1/AN5/C12IN1- (io), 10 RC0/AN4/C2IN+ (io), 11 RA2/AN2/T0CKI/INT/C1OUT (io), 12 RA1/AN1/C12IN0-/VREF/ICSPCLK (io), 13 RA0/AN0/C1IN+/ICSPDAT (io), 14 VSS (power)

## PIC16F616-E/ST
designator U?
8-Bit Flash Microcontroller CMOS Microcontroller, 2K (x14-Bit words) Program Memory, 128 Bytes Data Memory, 11 I/O pins, 14-Pin TSSOP, Standard VDD Range, Extended Temperature; Published: 29-Jan-2009; LatestRevisionDate: 02-Dec-2009; LatestRevisionNote: Updated datasheet to version revF, Nov-2009.; DatasheetVersion: revF, Nov-2009; PackageVersion: revBB, Aug-2009; PackageReference: TSSOP-ST14; Publisher: Altium Limited; PackageDescription: 14-Lead Plastic Thin Shrink Small Outline (ST) - 4.4mm Body [TSSOP]; Supplier 1: Digi-Key; Supplier Part Number 1: PIC16F616-E/ST-ND; ComponentLink1Description: Datasheet; ComponentLink1URL: http://ww1.microchip.com/downloads/en/DeviceDoc/41288F.pdf; ComponentLink2Description: Packaging Specification; ComponentLink2URL: http://www.microchip.com/stellent/groups/techpub_sg/documents/packagingspec/en012702.pdf; ComponentLink3Description: Microchip.com Home; ComponentLink3URL: http://www.microchip.com/
footprint TSSOP-ST14_N (TSOP, 14-Leads, Body 5x4.4mm, Pitch 0.65mm, IPC Medium Density)
footprint TSSOP-ST14_L (TSOP, 14-Leads, Body 5x4.4mm, Pitch 0.65mm, IPC High Density)
footprint TSSOP-ST14_M (TSOP, 14-Leads, Body 5x4.4mm, Pitch 0.65mm, IPC Low Density)
pins: 1 VDD (power), 2 RA5/T1CKI/OSC1/CLKIN (io), 3 RA4/AN3/~{T1G}/OSC2/CLKOUT (io), 4 RA3/~{MCLR}/VPP (io), 5 RC5/CCP1/P1A (io), 6 RC4/C2OUT/P1B (io), 7 RC3/AN7/C12IN3-/P1C (io), 8 RC2/AN6/C12IN2-/P1D (io), 9 RC1/AN5/C12IN1- (io), 10 RC0/AN4/C2IN+ (io), 11 RA2/AN2/T0CKI/INT/C1OUT (io), 12 RA1/AN1/C12IN0-/VREF/ICSPCLK (io), 13 RA0/AN0/C1IN+/ICSPDAT (io), 14 VSS (power)

## PIC16F616-H/ML
designator U?
8-Bit Flash Microcontroller CMOS Microcontroller, 2K (x14-Bit words) Program Memory, 128 Bytes Data Memory, 11 I/O pins, 16-Pin QFN, Standard VDD Range, High Temperature; Published: 40149; DatasheetVersion: revF, Nov-2009; PackageVersion: revBB, Aug-2009; PackageReference: QFN-ML16; Publisher: Altium Limited; PackageDescription: 16-Lead Plastic Quad Flat, No Lead Package (ML) - 4x4x0.9 mm Body [QFN]; Supplier 1: Digi-Key; Supplier Part Number 1: PIC16F616-H/ML-ND; Code_JEDEC: MO-220; Code_IPC: QFN65P400X400-16V2; ComponentLink1Description: Datasheet; ComponentLink1URL: http://ww1.microchip.com/downloads/en/DeviceDoc/41288F.pdf; ComponentLink2Description: Packaging Specification; ComponentLink2URL: http://www.microchip.com/stellent/groups/techpub_sg/documents/packagingspec/en012702.pdf; ComponentLink3Description: Microchip.com Home; ComponentLink3URL: http://www.microchip.com/
footprint QFN-ML16_N (QFN, 16-Leads, Body 4x4 mm, Pitch 0.65mm, IPC Medium Density)
footprint QFN-ML16_L (QFN, 16-Leads, Body 4x4 mm, Pitch 0.65mm, IPC High Density)
footprint QFN-ML16_M (QFN, 16-Leads, Body 4x4 mm, Pitch 0.65mm, IPC Low Density)
pins: 1 RA5/T1CKI/OSC1/CLKIN (io), 2 RA4/AN3/~{T1G}/OSC2/CLKOUT (io), 3 RA3/~{MCLR}/VPP (io), 4 RC5/CCP/P1A (io), 5 RC4/C2OUT/P1B (io), 6 RC3/AN7/C12IN3-/P1C (io), 7 RC2/AN6/C12IN2-/P1D (io), 8 RC1/AN5/C12IN1- (io), 9 RC0/AN4/C2IN1+ (io), 10 RA2/AN2/T0CKI/INT/C1OUT (io), 11 RA1/AN1/C12IN0-/VREF/ICSPCLK (io), 12 RA0/AN0/C1IN+/ICSPDAT (io), 13 VSS (power), 14 NC, 15 NC, 16 VDD (power), 17 Thermal Pad

## PIC16F616-H/SL
designator U?
8-Bit Flash Microcontroller CMOS Microcontroller, 2K (x14-Bit words) Program Memory, 128 Bytes Data Memory, 11 I/O pins, 14-Pin SOIC, Standard VDD Range, High Temperature; Published: 40149; DatasheetVersion: revF, Nov-2009; PackageVersion: revBB, Aug-2009; PackageReference: SOIC-SL14; Publisher: Altium Limited; PackageDescription: 14-Lead Plastic Small Outline (SL) - Narrow, 3.90mm Body [SOIC]; Supplier 1: Digi-Key; Supplier Part Number 1: PIC16F616-H/SL-ND; Code_JEDEC: MS-012-AB; Code_IPC: SOIC127P600-14; ComponentLink1Description: Datasheet; ComponentLink1URL: http://ww1.microchip.com/downloads/en/DeviceDoc/41288F.pdf; ComponentLink2Description: Packaging Specification; ComponentLink2URL: http://www.microchip.com/stellent/groups/techpub_sg/documents/packagingspec/en012702.pdf; ComponentLink3Description: Microchip.com Home; ComponentLink3URL: http://www.microchip.com/
footprint SOIC-SL14_N (SOIC, 14-Leads, Body 8.7x3.9mm, Pitch 1.27mm, IPC Medium Density)
footprint SOIC-SL14_L (SOIC, 14-Leads, Body 8.7x3.9mm, Pitch 1.27mm, IPC High Density)
footprint SOIC-SL14_M (SOIC, 14-Leads, Body 8.7x3.9mm, Pitch 1.27mm, IPC Low Density)
pins: 1 VDD (power), 2 RA5/T1CKI/OSC1/CLKIN (io), 3 RA4/AN3/~{T1G}/OSC2/CLKOUT (io), 4 RA3/~{MCLR}/VPP (io), 5 RC5/CCP1/P1A (io), 6 RC4/C2OUT/P1B (io), 7 RC3/AN7/C12IN3-/P1C (io), 8 RC2/AN6/C12IN2-/P1D (io), 9 RC1/AN5/C12IN1- (io), 10 RC0/AN4/C2IN+ (io), 11 RA2/AN2/T0CKI/INT/C1OUT (io), 12 RA1/AN1/C12IN0-/VREF/ICSPCLK (io), 13 RA0/AN0/C1IN+/ICSPDAT (io), 14 VSS (power)

## PIC16F616-H/ST
designator U?
8-Bit Flash Microcontroller CMOS Microcontroller, 2K (x14-Bit words) Program Memory, 128 Bytes Data Memory, 11 I/O pins, 14-Pin TSSOP, Standard VDD Range, High Temperature; Published: 40149; DatasheetVersion: revF, Nov-2009; PackageVersion: revBB, Aug-2009; PackageReference: TSSOP-ST14; Publisher: Altium Limited; PackageDescription: 14-Lead Plastic Thin Shrink Small Outline (ST) - 4.4mm Body [TSSOP]; Supplier 1: Digi-Key; Supplier Part Number 1: PIC16F616-H/ST-ND; ComponentLink1Description: Datasheet; ComponentLink1URL: http://ww1.microchip.com/downloads/en/DeviceDoc/41288F.pdf; ComponentLink2Description: Packaging Specification; ComponentLink2URL: http://www.microchip.com/stellent/groups/techpub_sg/documents/packagingspec/en012702.pdf; ComponentLink3Description: Microchip.com Home; ComponentLink3URL: http://www.microchip.com/
footprint TSSOP-ST14_N (TSOP, 14-Leads, Body 5x4.4mm, Pitch 0.65mm, IPC Medium Density)
footprint TSSOP-ST14_L (TSOP, 14-Leads, Body 5x4.4mm, Pitch 0.65mm, IPC High Density)
footprint TSSOP-ST14_M (TSOP, 14-Leads, Body 5x4.4mm, Pitch 0.65mm, IPC Low Density)
pins: 1 VDD (power), 2 RA5/T1CKI/OSC1/CLKIN (io), 3 RA4/AN3/~{T1G}/OSC2/CLKOUT (io), 4 RA3/~{MCLR}/VPP (io), 5 RC5/CCP1/P1A (io), 6 RC4/C2OUT/P1B (io), 7 RC3/AN7/C12IN3-/P1C (io), 8 RC2/AN6/C12IN2-/P1D (io), 9 RC1/AN5/C12IN1- (io), 10 RC0/AN4/C2IN+ (io), 11 RA2/AN2/T0CKI/INT/C1OUT (io), 12 RA1/AN1/C12IN0-/VREF/ICSPCLK (io), 13 RA0/AN0/C1IN+/ICSPDAT (io), 14 VSS (power)

## PIC16F616-I/ML
designator U?
8-Bit Flash Microcontroller CMOS Microcontroller, 2K (x14-Bit words) Program Memory, 128 Bytes Data Memory, 11 I/O pins, 16-Pin QFN, Standard VDD Range, Industrial Temperature; Published: 29-Jan-2009; LatestRevisionDate: 02-Dec-2009; LatestRevisionNote: Updated datasheet to version revF, Nov-2009.; DatasheetVersion: revF, Nov-2009; PackageVersion: revBB, Aug-2009; PackageReference: QFN-ML16; Publisher: Altium Limited; PackageDescription: 16-Lead Plastic Quad Flat, No Lead Package (ML) - 4x4x0.9 mm Body [QFN]; Supplier 1: Digi-Key; Supplier Part Number 1: PIC16F616-I/ML-ND; Supplier 2: Farnell; Supplier Part Number 2: 1788559; Code_JEDEC: MO-220; Code_IPC: QFN65P400X400-16V2; ComponentLink1Description: Datasheet; ComponentLink1URL: http://ww1.microchip.com/downloads/en/DeviceDoc/41288F.pdf; ComponentLink2Description: Packaging Specification; ComponentLink2URL: http://www.microchip.com/stellent/groups/techpub_sg/documents/packagingspec/en012702.pdf; ComponentLink3Description: Microchip.com Home; ComponentLink3URL: http://www.microchip.com/
footprint QFN-ML16_N (QFN, 16-Leads, Body 4x4 mm, Pitch 0.65mm, IPC Medium Density)
footprint QFN-ML16_L (QFN, 16-Leads, Body 4x4 mm, Pitch 0.65mm, IPC High Density)
footprint QFN-ML16_M (QFN, 16-Leads, Body 4x4 mm, Pitch 0.65mm, IPC Low Density)
pins: 1 RA5/T1CKI/OSC1/CLKIN (io), 2 RA4/AN3/~{T1G}/OSC2/CLKOUT (io), 3 RA3/~{MCLR}/VPP (io), 4 RC5/CCP/P1A (io), 5 RC4/C2OUT/P1B (io), 6 RC3/AN7/C12IN3-/P1C (io), 7 RC2/AN6/C12IN2-/P1D (io), 8 RC1/AN5/C12IN1- (io), 9 RC0/AN4/C2IN1+ (io), 10 RA2/AN2/T0CKI/INT/C1OUT (io), 11 RA1/AN1/C12IN0-/VREF/ICSPCLK (io), 12 RA0/AN0/C1IN+/ICSPDAT (io), 13 VSS (power), 14 NC, 15 NC, 16 VDD (power), 17 Thermal Pad

## PIC16F616-I/P
designator U?
8-Bit Flash Microcontroller CMOS Microcontroller, 2K (x14-Bit words) Program Memory, 128 Bytes Data Memory, 11 I/O pins, 14-Pin PDIP, Standard VDD Range, Industrial Temperature; Published: 29-Jan-2009; LatestRevisionDate: 02-Dec-2009; LatestRevisionNote: Updated datasheet to version revF, Nov-2009.; DatasheetVersion: revF, Nov-2009; PackageVersion: revBB, Aug-2009; PackageReference: PDIP300-P14; Publisher: Altium Limited; PackageDescription: 14-Lead Plastic Dual In-Line (P) - 300 mil Body [PDIP]; Supplier 1: Digi-Key; Supplier Part Number 1: PIC16F616-I/P-ND; Supplier 2: Farnell; Supplier Part Number 2: 1332199; ComponentLink1Description: Datasheet; ComponentLink1URL: http://ww1.microchip.com/downloads/en/DeviceDoc/41288F.pdf; ComponentLink2Description: Packaging Specification; ComponentLink2URL: http://www.microchip.com/stellent/groups/techpub_sg/documents/packagingspec/en012702.pdf; ComponentLink3Description: Microchip.com Home; ComponentLink3URL: http://www.microchip.com/
footprint PDIP300-P14 (DIP, 14-Leads, Row Spacing 7.62mm, Pitch 2.54mm, Body 19.2x6.6mm)
pins: 1 VDD (power), 2 RA5/T1CKI/OSC1/CLKIN (io), 3 RA4/AN3/~{T1G}/OSC2/CLKOUT (io), 4 RA3/~{MCLR}/VPP (io), 5 RC5/CCP1/P1A (io), 6 RC4/C2OUT/P1B (io), 7 RC3/AN7/C12IN3-/P1C (io), 8 RC2/AN6/C12IN2-/P1D (io), 9 RC1/AN5/C12IN1- (io), 10 RC0/AN4/C2IN+ (io), 11 RA2/AN2/T0CKI/INT/C1OUT (io), 12 RA1/AN1/C12IN0-/VREF/ICSPCLK (io), 13 RA0/AN0/C1IN+/ICSPDAT (io), 14 VSS (power)

## PIC16F616-I/SL
designator U?
8-Bit Flash Microcontroller CMOS Microcontroller, 2K (x14-Bit words) Program Memory, 128 Bytes Data Memory, 11 I/O pins, 14-Pin SOIC, Standard VDD Range, Industrial Temperature; Published: 29-Jan-2009; LatestRevisionDate: 02-Dec-2009; LatestRevisionNote: Updated datasheet to version revF, Nov-2009.; DatasheetVersion: revF, Nov-2009; PackageVersion: revBB, Aug-2009; PackageReference: SOIC-SL14; Publisher: Altium Limited; PackageDescription: 14-Lead Plastic Small Outline (SL) - Narrow, 3.90mm Body [SOIC]; Supplier 1: Digi-Key; Supplier Part Number 1: PIC16F616-I/SL-ND; Supplier 2: Farnell; Supplier Part Number 2: 1332201; Code_JEDEC: MS-012-AB; Code_IPC: SOIC127P600-14; ComponentLink1Description: Datasheet; ComponentLink1URL: http://ww1.microchip.com/downloads/en/DeviceDoc/41288F.pdf; ComponentLink2Description: Packaging Specification; ComponentLink2URL: http://www.microchip.com/stellent/groups/techpub_sg/documents/packagingspec/en012702.pdf; ComponentLink3Description: Microchip.com Home; ComponentLink3URL: http://www.microchip.com/
footprint SOIC-SL14_N (SOIC, 14-Leads, Body 8.7x3.9mm, Pitch 1.27mm, IPC Medium Density)
footprint SOIC-SL14_L (SOIC, 14-Leads, Body 8.7x3.9mm, Pitch 1.27mm, IPC High Density)
footprint SOIC-SL14_M (SOIC, 14-Leads, Body 8.7x3.9mm, Pitch 1.27mm, IPC Low Density)
pins: 1 VDD (power), 2 RA5/T1CKI/OSC1/CLKIN (io), 3 RA4/AN3/~{T1G}/OSC2/CLKOUT (io), 4 RA3/~{MCLR}/VPP (io), 5 RC5/CCP1/P1A (io), 6 RC4/C2OUT/P1B (io), 7 RC3/AN7/C12IN3-/P1C (io), 8 RC2/AN6/C12IN2-/P1D (io), 9 RC1/AN5/C12IN1- (io), 10 RC0/AN4/C2IN+ (io), 11 RA2/AN2/T0CKI/INT/C1OUT (io), 12 RA1/AN1/C12IN0-/VREF/ICSPCLK (io), 13 RA0/AN0/C1IN+/ICSPDAT (io), 14 VSS (power)

## PIC16F616-I/ST
designator U?
8-Bit Flash Microcontroller CMOS Microcontroller, 2K (x14-Bit words) Program Memory, 128 Bytes Data Memory, 11 I/O pins, 14-Pin TSSOP, Standard VDD Range, Industrial Temperature; Published: 29-Jan-2009; LatestRevisionDate: 02-Dec-2009; LatestRevisionNote: Updated datasheet to version revF, Nov-2009.; DatasheetVersion: revF, Nov-2009; PackageVersion: revBB, Aug-2009; PackageReference: TSSOP-ST14; Publisher: Altium Limited; PackageDescription: 14-Lead Plastic Thin Shrink Small Outline (ST) - 4.4mm Body [TSSOP]; Supplier 1: Digi-Key; Supplier Part Number 1: PIC16F616-I/ST-ND; Supplier 2: Farnell; Supplier Part Number 2: 1278399; Supplier 3: Farnell; Supplier Part Number 3: 1467798; ComponentLink1Description: Datasheet; ComponentLink1URL: http://ww1.microchip.com/downloads/en/DeviceDoc/41288F.pdf; ComponentLink2Description: Packaging Specification; ComponentLink2URL: http://www.microchip.com/stellent/groups/techpub_sg/documents/packagingspec/en012702.pdf; ComponentLink3Description: Microchip.com Home; ComponentLink3URL: http://www.microchip.com/
footprint TSSOP-ST14_N (TSOP, 14-Leads, Body 5x4.4mm, Pitch 0.65mm, IPC Medium Density)
footprint TSSOP-ST14_L (TSOP, 14-Leads, Body 5x4.4mm, Pitch 0.65mm, IPC High Density)
footprint TSSOP-ST14_M (TSOP, 14-Leads, Body 5x4.4mm, Pitch 0.65mm, IPC Low Density)
pins: 1 VDD (power), 2 RA5/T1CKI/OSC1/CLKIN (io), 3 RA4/AN3/~{T1G}/OSC2/CLKOUT (io), 4 RA3/~{MCLR}/VPP (io), 5 RC5/CCP1/P1A (io), 6 RC4/C2OUT/P1B (io), 7 RC3/AN7/C12IN3-/P1C (io), 8 RC2/AN6/C12IN2-/P1D (io), 9 RC1/AN5/C12IN1- (io), 10 RC0/AN4/C2IN+ (io), 11 RA2/AN2/T0CKI/INT/C1OUT (io), 12 RA1/AN1/C12IN0-/VREF/ICSPCLK (io), 13 RA0/AN0/C1IN+/ICSPDAT (io), 14 VSS (power)

## PIC16F616T-E/ML
designator U?
8-Bit Flash Microcontroller CMOS Microcontroller, 2K (x14-Bit words) Program Memory, 128 Bytes Data Memory, 11 I/O pins, 17-Pin QFN, Standard VDD Range, Extended Temperature, Tape and Reel; Published: 40149; DatasheetVersion: revF, Nov-2009; PackageVersion: revBB, Aug-2009; PackageReference: QFN-ML16; Publisher: Altium Limited; PackageDescription: 16-Lead Plastic Quad Flat, No Lead Package (ML) - 4x4x0.9 mm Body [QFN]; Code_JEDEC: MO-220; Code_IPC: QFN65P400X400-16V2; ComponentLink1Description: Datasheet; ComponentLink1URL: http://ww1.microchip.com/downloads/en/DeviceDoc/41288F.pdf; ComponentLink2Description: Packaging Specification; ComponentLink2URL: http://www.microchip.com/stellent/groups/techpub_sg/documents/packagingspec/en012702.pdf; ComponentLink3Description: Microchip.com Home; ComponentLink3URL: http://www.microchip.com/
footprint QFN-ML16_N (QFN, 16-Leads, Body 4x4 mm, Pitch 0.65mm, IPC Medium Density)
footprint QFN-ML16_L (QFN, 16-Leads, Body 4x4 mm, Pitch 0.65mm, IPC High Density)
footprint QFN-ML16_M (QFN, 16-Leads, Body 4x4 mm, Pitch 0.65mm, IPC Low Density)
pins: 1 RA5/T1CKI/OSC1/CLKIN (io), 2 RA4/AN3/~{T1G}/OSC2/CLKOUT (io), 3 RA3/~{MCLR}/VPP (io), 4 RC5/CCP/P1A (io), 5 RC4/C2OUT/P1B (io), 6 RC3/AN7/C12IN3-/P1C (io), 7 RC2/AN6/C12IN2-/P1D (io), 8 RC1/AN5/C12IN1- (io), 9 RC0/AN4/C2IN1+ (io), 10 RA2/AN2/T0CKI/INT/C1OUT (io), 11 RA1/AN1/C12IN0-/VREF/ICSPCLK (io), 12 RA0/AN0/C1IN+/ICSPDAT (io), 13 VSS (power), 14 NC, 15 NC, 16 VDD (power), 17 Thermal Pad

## PIC16F616T-E/SL
designator U?
8-Bit Flash Microcontroller CMOS Microcontroller, 2K (x14-Bit words) Program Memory, 128 Bytes Data Memory, 11 I/O pins, 14-Pin SOIC, Standard VDD Range, Extended Temperature, Tape and Reel; Published: 29-Jan-2009; LatestRevisionDate: 02-Dec-2009; LatestRevisionNote: Updated datasheet to version revF, Nov-2009.; DatasheetVersion: revF, Nov-2009; PackageVersion: revBB, Aug-2009; PackageReference: SOIC-SL14; Publisher: Altium Limited; PackageDescription: 14-Lead Plastic Small Outline (SL) - Narrow, 3.90mm Body [SOIC]; Code_JEDEC: MS-012-AB; Code_IPC: SOIC127P600-14; ComponentLink1Description: Datasheet; ComponentLink1URL: http://ww1.microchip.com/downloads/en/DeviceDoc/41288F.pdf; ComponentLink2Description: Packaging Specification; ComponentLink2URL: http://www.microchip.com/stellent/groups/techpub_sg/documents/packagingspec/en012702.pdf; ComponentLink3Description: Microchip.com Home; ComponentLink3URL: http://www.microchip.com/
footprint SOIC-SL14_N (SOIC, 14-Leads, Body 8.7x3.9mm, Pitch 1.27mm, IPC Medium Density)
footprint SOIC-SL14_L (SOIC, 14-Leads, Body 8.7x3.9mm, Pitch 1.27mm, IPC High Density)
footprint SOIC-SL14_M (SOIC, 14-Leads, Body 8.7x3.9mm, Pitch 1.27mm, IPC Low Density)
pins: 1 VDD (power), 2 RA5/T1CKI/OSC1/CLKIN (io), 3 RA4/AN3/~{T1G}/OSC2/CLKOUT (io), 4 RA3/~{MCLR}/VPP (io), 5 RC5/CCP1/P1A (io), 6 RC4/C2OUT/P1B (io), 7 RC3/AN7/C12IN3-/P1C (io), 8 RC2/AN6/C12IN2-/P1D (io), 9 RC1/AN5/C12IN1- (io), 10 RC0/AN4/C2IN+ (io), 11 RA2/AN2/T0CKI/INT/C1OUT (io), 12 RA1/AN1/C12IN0-/VREF/ICSPCLK (io), 13 RA0/AN0/C1IN+/ICSPDAT (io), 14 VSS (power)